# EAGLE library part MPCIE (library con-miniPCIe)
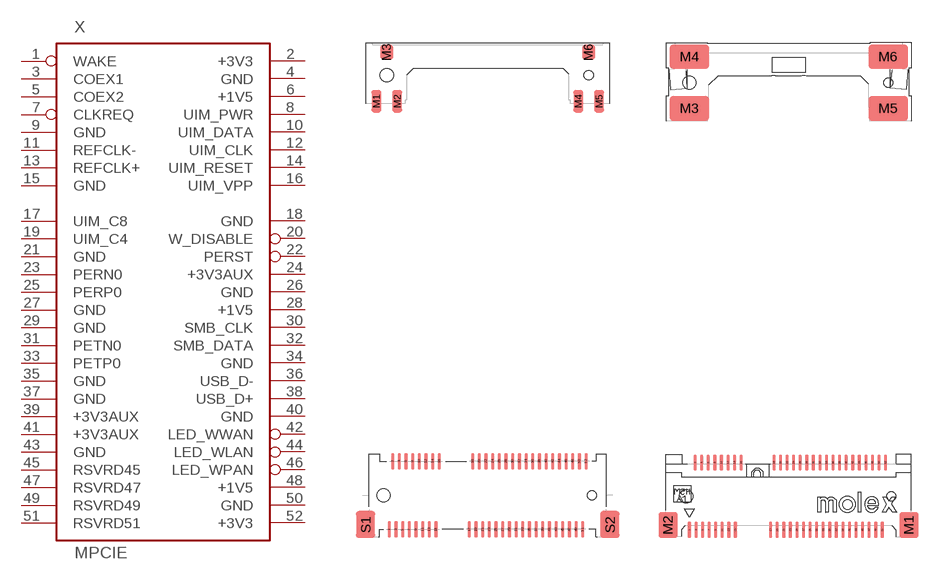
[diagram p0: symbol with the pads of MM60-52; footprints MM60-52, 679105700]

Designator prefix X

## MPCIE-JAE  [MM60-52]
1  WAKE  out
2  +3V3  pwr
3  COEX1
4  GND  pwr
5  COEX2
6  +1V5  pwr
7  CLKREQ  out
8  UIM_PWR
9  GND  pwr
10  UIM_DATA
11  REFCLK-  in
12  UIM_CLK
13  REFCLK+  in
14  UIM_RESET
15  GND  pwr
16  UIM_VPP
17  UIM_C8
18  GND  pwr
19  UIM_C4
20  W_DISABLE  in
21  GND  pwr
22  PERST  in
23  PERN0
24  +3V3AUX  pwr
25  PERP0
26  GND  pwr
27  GND  pwr
28  +1V5  pwr
29  GND  pwr
30  SMB_CLK  in
31  PETN0
32  SMB_DATA
33  PETP0
34  GND
35  GND  pwr
36  USB_D-
37  GND  pwr
38  USB_D+
39  +3V3AUX
40  GND  pwr
41  +3V3AUX
42  LED_WWAN  out
43  GND
44  LED_WLAN  out
45  RSVRD45
46  LED_WPAN  out
47  RSVRD47
48  +1V5  out
49  RSVRD49
50  GND  pwr
51  RSVRD51
52  +3V3  pwr

## MPCIE-MOLEX (MPN: 67910-5700; OC_FARNELL: unknown; OC_NEWARK: 93M2128)  [679105700]
Pads as for MM60-52

## Footprint MM60-52 (pad centres in mm)
JAE MM60-52
smd 0.4 x 2: 1 0.702,-4.1; 2 1.102,4.1; 3 1.502,-4.1; 4 1.902,4.1; 5 2.302,-4.1; 6 2.702,4.1; 7 3.102,-4.1; 8 3.502,4.1; 9 3.902,-4.1; 10 4.302,4.1; 11 4.702,-4.1; 12 5.102,4.1; 13 5.502,-4.1; 14 5.902,4.1; 15 6.302,-4.1; 16 6.702,4.1; 17 10.302,-4.1; 18 10.702,4.1; 19 11.102,-4.1; 20 11.502,4.1; 21 11.902,-4.1; 22 12.302,4.1; 23 12.702,-4.1; 24 13.102,4.1; 25 13.502,-4.1; 26 13.902,4.1; 27 14.302,-4.1; 28 14.702,4.1; 29 15.102,-4.1; 30 15.502,4.1; 31 15.902,-4.1; 32 16.302,4.1; 33 16.702,-4.1; 34 17.102,4.1; 35 17.502,-4.1; 36 17.902,4.1; 37 18.302,-4.1; 38 18.702,4.1; 39 19.102,-4.1; 40 19.502,4.1; 41 19.902,-4.1; 42 20.302,4.1; 43 20.702,-4.1; 44 21.102,4.1; 45 21.502,-4.1; 46 21.902,4.1; 47 22.302,-4.1; 48 22.702,4.1; 49 23.102,-4.1; 50 23.502,4.1; 51 23.902,-4.1; 52 24.302,4.1
smd 1.2 x 2.7: M1 -0.848,47.253; M2 1.652,47.253; M4 23.352,47.253; M5 25.852,47.253
smd 1.5 x 1.8: M3 0.402,53.153; M6 24.602,53.153
smd 2.3 x 3.2: S1 -2.148,-3.5; S2 27.152,-3.5
hole 1.6 at 0.002,0
hole 1.1 at 25.002,0
hole 1.6 at 0.402,50.403
hole 1.1 at 24.602,50.403

## Footprint 679105700 (pad centres in mm)
smd 0.4 x 2: 1 0.4,-4.1; 2 1.1,4.1; 3 1.2,-4.1; 4 1.9,4.1; 5 2,-4.1; 6 2.7,4.1; 7 2.8,-4.1; 8 3.5,4.1; 9 3.6,-4.1; 10 4.3,4.1; 11 4.4,-4.1; 12 5.1,4.1; 13 5.2,-4.1; 14 5.9,4.1; 15 6,-4.1; 16 6.7,4.1; 17 10.3,-4.1; 18 10.7,4.1; 19 11.1,-4.1; 20 11.5,4.1; 21 11.9,-4.1; 22 12.3,4.1; 23 12.7,-4.1; 24 13.1,4.1; 25 13.5,-4.1; 26 13.9,4.1; 27 14.3,-4.1; 28 14.7,4.1; 29 15.1,-4.1; 30 15.5,4.1; 31 15.9,-4.1; 32 16.3,4.1; 33 16.7,-4.1; 34 17.1,4.1; 35 17.5,-4.1; 36 17.9,4.1; 37 18.3,-4.1; 38 18.7,4.1; 39 19.1,-4.1; 40 19.5,4.1; 41 19.9,-4.1; 42 20.3,4.1; 43 20.7,-4.1; 44 21.1,4.1; 45 21.5,-4.1; 46 21.9,4.1; 47 22.3,-4.1; 48 22.7,4.1; 49 23.1,-4.1; 50 23.5,4.1; 51 23.9,-4.1; 52 24.3,4.1
smd 2.3 x 3.2: M1 27.15,-3.5; M2 -2.2,-3.5
smd 4.8 x 3: M3 0.4,47.25; M4 0.4,53.55; M5 24.6,47.25; M6 24.6,53.55
hole 1.6 at 0,0
hole 1.1 at 25,0
hole 1.6 at 0.4,50.4
hole 1.1 at 24.6,50.4